# Altium schematic symbol library FW30A10R0JA.SchLib: 1 symbol
Pins are listed as number, name and electrical type; pins without a type are passive.

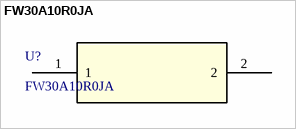
[diagram p0: symbol FW30A10R0JA]

## FW30A10R0JA
designator U?
Description; Manufacturer_Name: Bourns Electronics; Copyright: Copyright (C) 2025 Ultra Librarian. All rights reserved.; Manufacturer_Part_Number: FW30A10R0JA; RefDes: RefDes; Type: Type
footprint FW30A10R0JA_BRN
pins: 1, 2